# Altium schematic symbol library ESP-01S.SchLib: 2 symbols
Pins are listed as number, name and electrical type; pins without a type are passive.

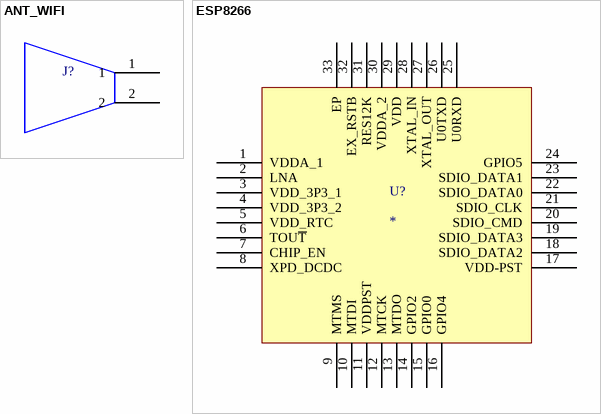
[diagram p0: symbols ANT_WIFI to ESP8266]

## ANT_WIFI
designator J?
pins: 1, 2

## ESP8266
designator U?
pins: 1 VDDA_1, 2 LNA, 3 VDD_3P3_1, 4 VDD_3P3_2, 5 VDD_RTC, 6 TOU~{T}, 7 CHIP_EN, 8 XPD_DCDC, 9 MTMS, 10 MTDI, 11 VDDPST, 12 MTCK, 13 MTDO, 14 GPIO2, 15 GPIO0, 16 GPIO4, 17 VDD-PST, 18 SDIO_DATA2, 19 SDIO_DATA3, 20 SDIO_CMD, 21 SDIO_CLK, 22 SDIO_DATA0, 23 SDIO_DATA1, 24 GPIO5, 25 U0RXD, 26 U0TXD, 27 XTAL_OUT, 28 XTAL_IN, 29 VDD, 30 VDDA_2, 31 RES12K, 32 EX_RSTB, 33 EP